# Altium schematic symbol library Transistors.SchLib: 9 symbols
Pins are listed as number, name and electrical type; pins without a type are passive.

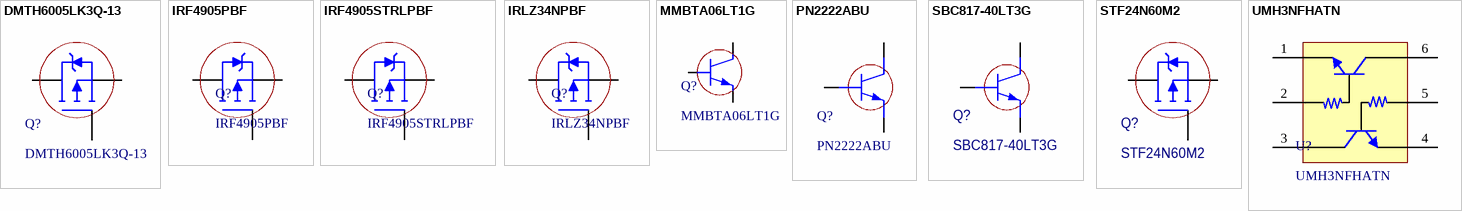
[diagram p0: symbols DMTH6005LK3Q-13 to UMH3NFHATN]

## DMTH6005LK3Q-13
designator Q?
MOSFET N-CH 60V 90A TO252-2; Manufacturer: Diodes; Package Body Material: Plastic; Transistor Element Material: SILICON; Polarity/Channel Type: N-CHANNEL; Additional Feature: HIGH RELIABILITY; Avalanche Energy Rating (Eas): 98mJ; Case Connection: DRAIN; Drain-source On Resistance-Max: 5.6mR; FET Technology: METAL-OXIDE SEMICONDUCTOR; Number of Elements: 1; Operating Mode: ENHANCEMENT MODE; Pulsed Drain Current-Max (IDM): 150A; Transistor Application: SWITCHING; Reference Standard: AEC-Q101; JEDEC-95 Code: TO-252; Supplier: Digikey; Supplier Part Number: DMTH6005LK3Q-13DICT-ND; Manufacturer Part Number: DMTH6005LK3Q-13; RoHS: Yes; Category: MOSFETs; Stock: 4322; Pricing: 1=1.79, 10=1.141, 100=0.7677, 500=0.60756, 1000=0.55604 (USD); Pins: 2; Package Shape: Rectangular; Drain Current-Max (ID): 90A; DS Breakdown Voltage-Min: 60V; JESD-30 Code: R-PSSO-G2; Package Style: SMALL OUTLINEMeter; Surface Mount: Yes; Terminal Form: Gull Wing; Terminal Position: SINGLE; RoHS Compliant: Yes; Reach SVHC Compliant: No; ComponentLink1URL: https://datasheet.ciiva.com:443/pdfs/VipMasterIC/IC/DIOD/DIOD-S-A0002497917/DIOD-S-A0002497917-1.pdf?src-supplier=IHS+Markit; ComponentLink1Description: https://datasheet.ciiva.com:443/pdfs/VipMasterIC/IC/DIOD/DIOD-S-A0002497917/DIOD-S-A0002497917-1.pdf?src-supplier=IHS+Markit; ComponentLink2URL: https://www.diodes.com/assets/Datasheets/DMTH6005LK3Q.pdf?src-supplier=Digikey; ComponentLink2Description: https://www.diodes.com/assets/Datasheets/DMTH6005LK3Q.pdf?src-supplier=Digikey
footprint TO-252-3
pins: 1 GATE, 2 DRAIN, 3 SOURCE

## IRF4905PBF
designator Q?
MOSFET P-CH 55V 74A TO220AB; Manufacturer: Infineon; Package Body Material: Plastic; Transistor Element Material: SILICON; Polarity/Channel Type: P-CHANNEL; Avalanche Energy Rating (Eas): 930mJ; Case Connection: DRAIN; Drain-source On Resistance-Max: 20mR; FET Technology: METAL-OXIDE SEMICONDUCTOR; Number of Elements: 1; Operating Mode: ENHANCEMENT MODE; Pulsed Drain Current-Max (IDM): 260A; Surface Mount: No; Transistor Application: SWITCHING; Drain Current-Max (Abs) (ID): 64A; Power Dissipation-Max (Abs): 150W; Time @ Peak Reflow Temperature-Max (s): 30s; JEDEC-95 Code: TO-220AB; Qualification Status: Not Qualified; Supplier: Digikey; Supplier Part Number: IRF4905PBF-ND; Manufacturer Part Number: IRF4905PBF; RoHS: Yes; Category: MOSFETs; Stock: 40718; Pricing: 1=2.12, 50=1.7014, 100=1.3999, 500=1.18454, 1000=1.00507, 2000=0.95482, 5000=0.91892, 10000=0.8885 (USD); Pins: 3; Package Shape: Rectangular; Terminal Finish: Nickel; Max Operating Temperature: 175°C; Drain Current-Max (ID): 74A; DS Breakdown Voltage-Min: 55V; JESD-30 Code: R-PSFM-T3; Package Style: FLANGE MOUNTMeter; Terminal Form: Through Hole; Terminal Position: SINGLE; JESD-609 Code: e3; Peak Reflow Temperature (Cel): 250°C; Reach SVHC Compliant: Yes; RoHS Compliant: Yes; ComponentLink1URL: https://datasheet.ciiva.com:443/pdfs/VipMasterIC/IC/IRSD/IRSDS18781/IRSDS18781-1.pdf?src-supplier=IHS+Markit; ComponentLink1Description: https://datasheet.ciiva.com:443/pdfs/VipMasterIC/IC/IRSD/IRSDS18781/IRSDS18781-1.pdf?src-supplier=IHS+Markit; ComponentLink2URL: http://www.farnell.com/datasheets/2043028.pdf?src-supplier=Farnell; ComponentLink2Description: http://www.farnell.com/datasheets/2043028.pdf?src-supplier=Farnell; ComponentLink3URL: https://www.alliedelec.com/m/d/9c565c07b8a17fdfcf4a6647f5367175.pdf?src-supplier=Allied+Electronics; ComponentLink3Description: https://www.alliedelec.com/m/d/9c565c07b8a17fdfcf4a6647f5367175.pdf?src-supplier=Allied+Electronics; ComponentLink4URL: https://www.infineon.com/dgdl/irf4905pbf.pdf?fileId=5546d462533600a4015355e329b1197e&src-supplier=Digikey; ComponentLink4Description: https://www.infineon.com/dgdl/irf4905pbf.pdf?fileId=5546d462533600a4015355e329b1197e&src-supplier=Digikey; ComponentLink5URL: http://www.farnell.com/datasheets/2043028.pdf?src-supplier=Element14; ComponentLink5Description: http://www.farnell.com/datasheets/2043028.pdf?src-supplier=Element14
footprint TO-220AB
pins: 1 GATE, 2 DRAIN, 3 SOURCE

## IRF4905STRLPBF
designator Q?
MOSFET P-CH 55V 42A D2PAK; Manufacturer: Infineon; Package Body Material: Plastic; Transistor Element Material: SILICON; Polarity/Channel Type: P-CHANNEL; Avalanche Energy Rating (Eas): 140mJ; Case Connection: DRAIN; Drain-source On Resistance-Max: 20mR; FET Technology: METAL-OXIDE SEMICONDUCTOR; Number of Elements: 1; Operating Mode: ENHANCEMENT MODE; Pulsed Drain Current-Max (IDM): 280A; Time @ Peak Reflow Temperature-Max (s): 30s; Transistor Application: SWITCHING; Power Dissipation-Max (Abs): 170W; Qualification Status: Not Qualified; JEDEC-95 Code: TO-263AB; Supplier: Digikey; Supplier Part Number: IRF4905STRLPBFCT-ND; Manufacturer Part Number: IRF4905STRLPBF; RoHS: Yes; Category: MOSFETs; Stock: 18570; Pricing: 1=2.71, 10=2.248, 100=1.7891 (USD); Pins: 2; Package Shape: Rectangular; Terminal Finish: Nickel; Max Operating Temperature: 150°C; JESD-609 Code: e3; Drain Current-Max (ID): 42A; DS Breakdown Voltage-Min: 55V; JESD-30 Code: R-PSSO-G2; Moisture Sensitivity Level: 1; Package Style: SMALL OUTLINEMeter; Peak Reflow Temperature (Cel): 260°C; Surface Mount: Yes; Terminal Form: Gull Wing; Terminal Position: SINGLE; Drain Current-Max (Abs) (ID): 42A; RoHS Compliant: Yes; Reach SVHC Compliant: No; ComponentLink1URL: https://datasheet.ciiva.com:443/pdfs/VipMasterIC/IC/IRSD/IRSDS09304/IRSDS09304-1.pdf?src-supplier=IHS+Markit; ComponentLink1Description: https://datasheet.ciiva.com:443/pdfs/VipMasterIC/IC/IRSD/IRSDS09304/IRSDS09304-1.pdf?src-supplier=IHS+Markit
footprint D2PAK
pins: 1 GATE, 2 DRAIN, 3 SOURCE

## IRLZ34NPBF
designator Q?
MOSFET N-CH 55V 30A TO220AB; Manufacturer: Infineon; Package Body Material: Plastic; Transistor Element Material: SILICON; Polarity/Channel Type: N-CHANNEL; Avalanche Energy Rating (Eas): 110mJ; Case Connection: DRAIN; Drain-source On Resistance-Max: 46mR; FET Technology: METAL-OXIDE SEMICONDUCTOR; Number of Elements: 1; Operating Mode: ENHANCEMENT MODE; Pulsed Drain Current-Max (IDM): 110A; Surface Mount: No; Time @ Peak Reflow Temperature-Max (s): 30s; Transistor Application: SWITCHING; JEDEC-95 Code: TO-220AB; Qualification Status: Not Qualified; Supplier: Digikey; Supplier Part Number: IRLZ34NPBF-ND; Manufacturer Part Number: IRLZ34NPBF; RoHS: Yes; Category: MOSFETs; Stock: 48925; Pricing: 1=1.92, 10=1.222, 100=0.8251, 500=0.65464, 1000=0.59972, 2000=0.55349, 5000=0.51175 (USD); Pins: 3; Package Shape: Rectangular; Terminal Finish: Nickel; JESD-609 Code: e3; Drain Current-Max (ID): 30A; DS Breakdown Voltage-Min: 55V; JESD-30 Code: R-PSFM-T3; Package Style: FLANGE MOUNTMeter; Peak Reflow Temperature (Cel): 250°C; Terminal Form: Through Hole; Terminal Position: SINGLE; Reach SVHC Compliant: No; RoHS Compliant: Yes; ComponentLink1URL: https://datasheet.ciiva.com:443/pdfs/VipMasterIC/IC/IRSD/IRSDS10979/IRSDS10979-1.pdf?src-supplier=IHS+Markit; ComponentLink1Description: https://datasheet.ciiva.com:443/pdfs/VipMasterIC/IC/IRSD/IRSDS10979/IRSDS10979-1.pdf?src-supplier=IHS+Markit; ComponentLink2URL: http://www.farnell.com/datasheets/140900.pdf?src-supplier=Farnell; ComponentLink2Description: http://www.farnell.com/datasheets/140900.pdf?src-supplier=Farnell; ComponentLink3URL: https://www.alliedelec.com/m/d/cec553c97988a3d31c8d36b60a9bef5c.pdf?src-supplier=Allied+Electronics; ComponentLink3Description: https://www.alliedelec.com/m/d/cec553c97988a3d31c8d36b60a9bef5c.pdf?src-supplier=Allied+Electronics; ComponentLink4URL: https://www.infineon.com/dgdl/irlz34npbf.pdf?fileId=5546d462533600a40153567206892720&src-supplier=Digikey; ComponentLink4Description: https://www.infineon.com/dgdl/irlz34npbf.pdf?fileId=5546d462533600a40153567206892720&src-supplier=Digikey; ComponentLink5URL: http://datasheet.octopart.com/IRLZ34NPBF-Infineon-datasheet-7836572.pdf?src-supplier=Avnet; ComponentLink5Description: http://datasheet.octopart.com/IRLZ34NPBF-Infineon-datasheet-7836572.pdf?src-supplier=Avnet; ComponentLink6URL: https://datasheet.octopart.com/IRLZ34N-International-Rectifier-datasheet-57064.pdf?src-supplier=Mouser; ComponentLink6Description: https://datasheet.octopart.com/IRLZ34N-International-Rectifier-datasheet-57064.pdf?src-supplier=Mouser; ComponentLink7URL: http://datasheet.octopart.com/IRLZ34NPBF-Infineon-datasheet-7836572.pdf?src-supplier=Arrow+Electronics; ComponentLink7Description: http://datasheet.octopart.com/IRLZ34NPBF-Infineon-datasheet-7836572.pdf?src-supplier=Arrow+Electronics; ComponentLink8URL: http://datasheet.octopart.com/IRLZ34NPBF-Infineon-datasheet-7836572.pdf?src-supplier=Rs; ComponentLink8Description: http://datasheet.octopart.com/IRLZ34NPBF-Infineon-datasheet-7836572.pdf?src-supplier=Rs; ComponentLink9URL: http://www.farnell.com/datasheets/140900.pdf?src-supplier=Element14; ComponentLink9Description: http://www.farnell.com/datasheets/140900.pdf?src-supplier=Element14; ComponentLink10URL: http://www.farnell.com/datasheets/140900.pdf?src-supplier=Newark; ComponentLink10Description: http://www.farnell.com/datasheets/140900.pdf?src-supplier=Newark; ComponentLink11URL: http://datasheet.octopart.com/IRLZ34NPBF-Infineon-datasheet-7836572.pdf?src-supplier=Onlinecomponents.com; ComponentLink11Description: http://datasheet.octopart.com/IRLZ34NPBF-Infineon-datasheet-7836572.pdf?src-supplier=Onlinecomponents.com; ComponentLink12URL: http://datasheet.octopart.com/IRLZ34NPBF-Infineon-datasheet-7836572.pdf?src-supplier=Verical; ComponentLink12Description: http://datasheet.octopart.com/IRLZ34NPBF-Infineon-datasheet-7836572.pdf?src-supplier=Verical; ComponentLink13URL: http://datasheet.octopart.com/IRLZ34NPBF-Infineon-datasheet-7836572.pdf?src-supplier=Future+Electronics; ComponentLink13Description: http://datasheet.octopart.com/IRLZ34NPBF-Infineon-datasheet-7836572.pdf?src-supplier=Future+Electronics; ComponentLink14URL: http://datasheet.octopart.com/IRLZ34NPBF-Infineon-datasheet-7836572.pdf?src-supplier=Quest; ComponentLink14Description: http://datasheet.octopart.com/IRLZ34NPBF-Infineon-datasheet-7836572.pdf?src-supplier=Quest; ComponentLink15URL: http://datasheet.octopart.com/IRLZ34NPBF-Infineon-datasheet-7836572.pdf?src-supplier=NAC+Semi; ComponentLink15Description: http://datasheet.octopart.com/IRLZ34NPBF-Infineon-datasheet-7836572.pdf?src-supplier=NAC+Semi
footprint TO-220AB
pins: 1 GATE, 2 DRAIN, 3 SOURCE

## MMBTA06LT1G
designator Q?
TRANS NPN 80V 0.5A SOT23-3; Manufacturer: ON Semiconductor; Package Body Material: Plastic; Transistor Element Material: SILICON; Max Collector Current: 500mA; DC Current Gain-Min (hFE): 100; Number of Elements: 1; Power Dissipation-Max (Abs): 225mW; Transistor Application: AMPLIFIER; Frequency: 100MHz; Time @ Peak Reflow Temperature-Max (s): 40s; JEDEC-95 Code: TO-236; Qualification Status: Not Qualified; Supplier: Digikey; Supplier Part Number: MMBTA06LT1GOSCT-ND; Manufacturer Part Number: MMBTA06LT1G; RoHS: Yes; Category: BJTs; Stock: 43340; Pricing: 1=0.14, 10=0.084, 100=0.0516, 500=0.0373, 1000=0.03264 (USD); Pins: 3; Package Shape: Rectangular; Terminal Finish: Tin; Max Operating Temperature: 150°C; JESD-609 Code: e3; Polarity/Channel Type: NPN; Collector-emitter Voltage-Max: 80V; JESD-30 Code: R-PDSO-G3; Moisture Sensitivity Level: 1; Package Style: SMALL OUTLINEMeter; Surface Mount: Yes; Terminal Form: Gull Wing; Terminal Position: DUAL; Peak Reflow Temperature (Cel): 260°C; Reach SVHC Compliant: Yes; RoHS Compliant: Yes; ComponentLink1URL: https://datasheet.ciiva.com:443/pdfs/VipMasterIC/IC/ONSM/ONSM-S-A0002809653/ONSM-S-A0002809653-1.pdf?src-supplier=IHS+Markit; ComponentLink1Description: https://datasheet.ciiva.com:443/pdfs/VipMasterIC/IC/ONSM/ONSM-S-A0002809653/ONSM-S-A0002809653-1.pdf?src-supplier=IHS+Markit
footprint SOT-23-3
pins: 1 BASE, 2 EMITTER, 3 COLLECTOR

## PN2222ABU
designator Q?
TRANS NPN 40V 1A TO92-3; Manufacturer: ON Semiconductor / Fairchild; Package Body Material: Plastic; Transistor Element Material: SILICON; DC Current Gain-Min (hFE): 40; Number of Elements: 1; Power Dissipation-Max (Abs): 625mW; Surface Mount: No; Transistor Application: SWITCHING; Frequency: 300MHz; Turn-off Time-Max (toff): 285ns; Turn-on Time-Max (ton): 35ns; JEDEC-95 Code: TO-92; Qualification Status: Not Qualified; Supplier: Digikey; Supplier Part Number: PN2222AFS-ND; Manufacturer Part Number: PN2222ABU; RoHS: Yes; Stock: 3119; Pricing: 1=0.4, 10=0.271, 100=0.1324, 500=0.11046, 1000=0.07675, 2000=0.06652, 5000=0.0617, 10000=0.05117, 50000=0.04515 (USD); Pins: 3; Package Shape: Round; Max Operating Temperature: 150°C; Polarity/Channel Type: NPN; Max Collector Current: 1A; Collector-emitter Voltage-Max: 40V; JESD-30 Code: O-PBCY-T3; Package Style: CYLINDRICALMeter; Terminal Form: Through Hole; Terminal Position: BOTTOM; Reach SVHC Compliant: Yes; RoHS Compliant: Yes; ComponentLink1URL: https://datasheet.ciiva.com:443/pdfs/VipMasterIC/IC/ONSM/ONSM-S-A0003586886/ONSM-S-A0003589513-1.pdf?src-supplier=IHS+Markit; ComponentLink1Description: https://datasheet.ciiva.com:443/pdfs/VipMasterIC/IC/ONSM/ONSM-S-A0003586886/ONSM-S-A0003589513-1.pdf?src-supplier=IHS+Markit; ComponentLink2URL: https://datasheet.ciiva.com/7972/1698498-7972838.pdf?src-supplier=Element14; ComponentLink2Description: https://datasheet.ciiva.com/7972/1698498-7972838.pdf?src-supplier=Element14; ComponentLink3URL: https://datasheet.ciiva.com/15139/getdatasheetpartid-93080-15139189.pdf?src-supplier=Verical; ComponentLink3Description: https://datasheet.ciiva.com/15139/getdatasheetpartid-93080-15139189.pdf?src-supplier=Verical; ComponentLink4URL: https://datasheet.ciiva.com/972/pn2222a-972182.pdf?src-supplier=Digikey; ComponentLink4Description: https://datasheet.ciiva.com/972/pn2222a-972182.pdf?src-supplier=Digikey; ComponentLink5URL: https://datasheet.ciiva.com/11197/pn2222a-11197674.pdf?src-supplier=Avnet; ComponentLink5Description: https://datasheet.ciiva.com/11197/pn2222a-11197674.pdf?src-supplier=Avnet; ComponentLink6URL: https://datasheet.ciiva.com/46415/1845309-46415596.pdf?src-supplier=Element14; ComponentLink6Description: https://datasheet.ciiva.com/46415/1845309-46415596.pdf?src-supplier=Element14; ComponentLink7URL: https://datasheet.ciiva.com/17485/pn2222a-17485503.pdf?src-supplier=Future+Electronics; ComponentLink7Description: https://datasheet.ciiva.com/17485/pn2222a-17485503.pdf?src-supplier=Future+Electronics
footprint TO-92-3
pins: 1 E, 2 B, 3 C

## SBC817-40LT3G
designator Q?
TRANS NPN 45V 0.5A SOT23-3; Manufacturer: onsemi; Manufacturer Lifecycle Status: ACTIVE; Description: Small Signal Bipolar Transistor, 0.5A I(C), 45V V(BR)CEO, 1-Element, NPN, Silicon, TO-236AB; Collector Base Voltage (VCBO): 50V; Continuous Collector Current: 500mA; Element Configuration: Single; Emitter Base Voltage (VEBO): 5V; Frequency: 100MHz; hFE Min: 250; Max Power Dissipation: 300mW; Number of Elements: 1; Supplier: DigiKey; Supplier Part Number: SBC817-40LT3GOSCT-ND; Manufacturer Part Number: SBC817-40LT3G; RoHS: Compliant; Category: BJTs; Stock: 144045; Pricing: 1=0.24, 10=0.146, 100=0.0904, 500=0.06616, 1000=0.05829, 2000=0.05165, 5000=0.04443 (USD); Case/Package: SOT-23-3; China RoHS: Compliant; Collector Emitter Breakdown Voltage: 45V; Collector Emitter Voltage (VCEO): 45V; Country of Origin: Mainland China; Export Control Classification Number (ECCN) Code: EAR99; Halogen Free: Halogen Free; Introduction Date: 1991-03-01; Lead Free: Lead Free; Lifecycle Status: Production; Max Breakdown Voltage: 45V; Max Collector Current: 500mA; Clock Frequency: 100MHz; Max Operating Temperature: 150°C; Min Operating Temperature: -55°C; Pins: 3; Number of Terminals: 3; Packaging: Tape and Reel; Polarity: NPN; Power Dissipation: 300mW; Radiation Hardening: No; REACH SVHC: Yes; Schedule B: 8541210080, 8541210080|8541210080, 8541210080|8541210080|8541210080, 8541210080|8541210080|8541210080|8541210080; Transition Frequency: 100MHz; ComponentLink1URL: https://datasheet.octopart.com:443/SBC817-40LT3G-onsemi-datasheet-175914671.pdf?src-supplier=IHS; ComponentLink1Description: https://datasheet.octopart.com:443/SBC817-40LT3G-onsemi-datasheet-175914671.pdf?src-supplier=IHS; ComponentLink2URL: https://datasheet.octopart.com:443/SBC817-40LT3G-ON-Semiconductor-datasheet-11547464.pdf?src-supplier=Upverter; ComponentLink2Description: https://datasheet.octopart.com:443/SBC817-40LT3G-ON-Semiconductor-datasheet-11547464.pdf?src-supplier=Upverter; ComponentLink3URL: https://datasheet.octopart.com:443/SBC817-40LT3G-ON-Semiconductor-datasheet-78758879.pdf?src-supplier=Master+Electronics; ComponentLink3Description: https://datasheet.octopart.com:443/SBC817-40LT3G-ON-Semiconductor-datasheet-78758879.pdf?src-supplier=Master+Electronics; ComponentLink4URL: https://datasheet.octopart.com:443/SBC817-40LT3G-onsemi-datasheet-189132499.pdf?src-supplier=Master+Electronics; ComponentLink4Description: https://datasheet.octopart.com:443/SBC817-40LT3G-onsemi-datasheet-189132499.pdf?src-supplier=Master+Electronics; ComponentLink5URL: https://datasheet.octopart.com:443/SBC817-40LT3G-ON-Semiconductor-datasheet-8110464.pdf?src-supplier=onsemi; ComponentLink5Description: https://datasheet.octopart.com:443/SBC817-40LT3G-ON-Semiconductor-datasheet-8110464.pdf?src-supplier=onsemi; ComponentLink6URL: https://datasheet.octopart.com:443/SBC817-40LT3G-ON-Semiconductor-datasheet-6400296.pdf?src-supplier=onsemi; ComponentLink6Description: https://datasheet.octopart.com:443/SBC817-40LT3G-ON-Semiconductor-datasheet-6400296.pdf?src-supplier=onsemi; ComponentLink7URL: https://datasheet.octopart.com:443/SBC817-40LT3G-onsemi-datasheet-133521192.pdf?src-supplier=TME; ComponentLink7Description: https://datasheet.octopart.com:443/SBC817-40LT3G-onsemi-datasheet-133521192.pdf?src-supplier=TME; ComponentLink8URL: http://sigma.octopart.com:80/15540786/rohs_certificate/ON-Semiconductor-SBC817-40LT3G.pdf?src-supplier=Compliance+Statements; ComponentLink8Description: http://sigma.octopart.com:80/15540786/rohs_certificate/ON-Semiconductor-SBC817-40LT3G.pdf?src-supplier=Compliance+Statements; ComponentLink9URL: http://sigma.octopart.com:80/15684525/materials_sheet/ON-Semiconductor-SBC817-40LT3G.csv?src-supplier=Compliance+Statements; ComponentLink9Description: http://sigma.octopart.com:80/15684525/materials_sheet/ON-Semiconductor-SBC817-40LT3G.csv?src-supplier=Compliance+Statements; ComponentLink10URL: http://sigma.octopart.com:80/150631289/rohs_statement/ON-Semiconductor-SBC817-40LT3G.pdf?src-supplier=Compliance+Statements; ComponentLink10Description: http://sigma.octopart.com:80/150631289/rohs_statement/ON-Semiconductor-SBC817-40LT3G.pdf?src-supplier=Compliance+Statements; ComponentLink11URL: http://sigma.octopart.com:80/reach_statement/ON-Semiconductor-company-79.pdf?src-supplier=Compliance+Statements; ComponentLink11Description: http://sigma.octopart.com:80/reach_statement/ON-Semiconductor-company-79.pdf?src-supplier=Compliance+Statements; ComponentLink12URL: https://octopart.com:443/opatz8j6/c1?t=cEC30QwZsyb0x-FMX1jhecc8cj0lODbyQVaJL5I4EOudI-i4uiyo8QJe7x8WGpb_UfldyhXdI6wTsOpeJ5HWz7Kzleo1EiYpUhSwBawIenFlUCJsMQESd9nlIcVrbvWrabnb6HpXCtvxDkswRDKZDOG3MBWymJDy-mDPZ7u5UlptsX8-ONvWANeBowi-w7nz9iZWLyjqVoM_QTKEQgTILpDidA8CXVyMync_ukwLaadxciX7hbgDafM4N20bPQPEg7z2Sm1KwG15cEibpJqtQ1hKuQpn-edZc_o2ddvdnsTvT3gddPA_45tVxaNa9XWOJj00WFdTbgFSlU6TTFEybWVRRlK52823bHwN5uVZ-7M&src-supplier=Compliance+Statements; ComponentLink12Description: https://octopart.com:443/opatz8j6/c1?t=cEC30QwZsyb0x-FMX1jhecc8cj0lODbyQVaJL5I4EOudI-i4uiyo8QJe7x8WGpb_UfldyhXdI6wTsOpeJ5HWz7Kzleo1EiYpUhSwBawIenFlUCJsMQESd9nlIcVrbvWrabnb6HpXCtvxDkswRDKZDOG3MBWymJDy-mDPZ7u5UlptsX8-ONvWANeBowi-w7nz9iZWLyjqVoM_QTKEQgTILpDidA8CXVyMync_ukwLaadxciX7hbgDafM4N20bPQPEg7z2Sm1KwG15cEibpJqtQ1hKuQpn-edZc_o2ddvdnsTvT3gddPA_45tVxaNa9XWOJj00WFdTbgFSlU6TTFEybWVRRlK52823bHwN5uVZ-7M&src-supplier=Compliance+Statements; ComponentLink13URL: https://octopart.com:443/opatz8j6/c1?t=zgMoQUE-FAGizIL2uNADbP3CQfJXduVKNLOt0cT-C7XNOnl5EOgq1b4UVzb0SZjomH3a3CKF513mPEsnVuWFTldNModuoiOAROM-U7UMjU1TiA4JeYDoVNfia-psQDQPr2NtqLaOU9Ju06PrsXVFYjz3NjgsSVJa-5X9CcWQ1HPxPGGUjhKccWy9QJVPTcefUdorkFOZvdb3XFmpP_42jgzyR9ZUQAURqjwANTg96Z5ittV_NTML0IEyFPhh0jLh0am3ICJpb8VA9ph6AsqLc9j4fhdilqUiQTpG4UGLijUcgX0mpfEUR-9G0JRIiKjoFhJPWB3BEKd5JcwsK41biiNJ-0hjTcgtgsqlWYFFTPLS&src-supplier=Compliance+Statements; ComponentLink13Description: https://octopart.com:443/opatz8j6/c1?t=zgMoQUE-FAGizIL2uNADbP3CQfJXduVKNLOt0cT-C7XNOnl5EOgq1b4UVzb0SZjomH3a3CKF513mPEsnVuWFTldNModuoiOAROM-U7UMjU1TiA4JeYDoVNfia-psQDQPr2NtqLaOU9Ju06PrsXVFYjz3NjgsSVJa-5X9CcWQ1HPxPGGUjhKccWy9QJVPTcefUdorkFOZvdb3XFmpP_42jgzyR9ZUQAURqjwANTg96Z5ittV_NTML0IEyFPhh0jLh0am3ICJpb8VA9ph6AsqLc9j4fhdilqUiQTpG4UGLijUcgX0mpfEUR-9G0JRIiKjoFhJPWB3BEKd5JcwsK41biiNJ-0hjTcgtgsqlWYFFTPLS&src-supplier=Compliance+Statements
footprint SOT-23-3
pins: 1 B, 2 E, 3 C

## STF24N60M2
designator Q?
MOSFET N-CH 600V 18A TO220FP; Manufacturer: STMicroelectronics; Drain to Source Resistance: 190mΩ; Element Configuration: Single; Fall Time: 61ns; Gate to Source Voltage (Vgs): 25V; Input Capacitance: 1.06nF; Max Power Dissipation: 30W; Number of Elements: 1; Rise Time: 9ns; Turn-Off Delay Time: 60ns; Turn-On Delay Time: 14ns; Supplier: DigiKey; Supplier Part Number: 497-13577-5-ND; Manufacturer Part Number: STF24N60M2; RoHS: Compliant; Category: MOSFETs; Stock: 871; Pricing: 1=3.33, 50=1.6716, 100=1.5103, 500=1.22756, 1000=1.13672, 2000=1.06037, 5000=1.05788 (USD); Case/Package: TO-220-3; China RoHS: Non-Compliant; Continuous Drain Current (ID): 18A; Country of Origin: Mainland China; Drain to Source Breakdown Voltage: 600V; Drain to Source Voltage (Vdss): 600V; Export Control Classification Number (ECCN) Code: EAR99; Height: 16.4mm; Introduction Date: 2013-01-14; Lead Free: Lead Free; Length: 10.4mm; Lifecycle Status: Production; Max Operating Temperature: 150°C; Min Breakdown Voltage: 600V; Min Operating Temperature: -55°C; Mounting Technology: Through Hole; Pins: 3; Number of Terminals: 3; Power Dissipation: 30W; Radiation Hardening: No; Rds On Max: 190mΩ; REACH SVHC: No; Schedule B: 8541290080, 8541290080|8541290080|8541290080|8541290080|8541290080|8541290080|8541290080|8541290080|8541290080|8541290080|8541290080|8541290080|8541290080|8541290080|8541290080|8541290080|8541290080|8541290080|8541290080|8541290080|8541290080|8541290080|8541290080|85; Width: 4.6mm; ComponentLink1URL: https://datasheet.octopart.com:443/STF24N60M2-STMicroelectronics-datasheet-62336145.pdf?src-supplier=Farnell; ComponentLink1Description: https://datasheet.octopart.com:443/STF24N60M2-STMicroelectronics-datasheet-62336145.pdf?src-supplier=Farnell; ComponentLink2URL: https://datasheet.octopart.com:443/STF24N60M2-STMicroelectronics-datasheet-16349054.pdf?src-supplier=Future+Electronics; ComponentLink2Description: https://datasheet.octopart.com:443/STF24N60M2-STMicroelectronics-datasheet-16349054.pdf?src-supplier=Future+Electronics; ComponentLink3URL: https://datasheet.octopart.com:443/STF24N60M2-STMicroelectronics-datasheet-62335173.pdf?src-supplier=TME; ComponentLink3Description: https://datasheet.octopart.com:443/STF24N60M2-STMicroelectronics-datasheet-62335173.pdf?src-supplier=TME
footprint TO-220FP
pins: 1 GATE, 2 DRAIN, 3 SOURCE

## UMH3NFHATN
designator U?
NPN+NPN DIGITAL TRANSISTOR(WITH; Manufacturer: Rohm; Supplier: Digikey; Supplier Part Number: UMH3NFHATNCT-ND; Manufacturer Part Number: UMH3NFHATN; RoHS: Yes; Category: BJTs; Stock: 4239; Pricing: 1=0.32, 10=0.194, 100=0.1213, 500=0.08962, 1000=0.07938 (USD); Reach SVHC Compliant: Yes; RoHS Compliant: Yes; ComponentLink1URL: https://datasheet.ciiva.com:443/pdfs/VipMasterIC/IC/ROHM/ROHM-S-A0002828521/ROHM-S-A0002828521-1.pdf?src-supplier=IHS+Markit; ComponentLink1Description: https://datasheet.ciiva.com:443/pdfs/VipMasterIC/IC/ROHM/ROHM-S-A0002828521/ROHM-S-A0002828521-1.pdf?src-supplier=IHS+Markit; ComponentLink2URL: http://www.farnell.com/datasheets/2297225.pdf?src-supplier=Farnell; ComponentLink2Description: http://www.farnell.com/datasheets/2297225.pdf?src-supplier=Farnell; ComponentLink3URL: http://rohmfs.rohm.com/en/products/databook/datasheet/discrete/transistor/digital/umh3nfha-e.pdf?src-supplier=Digikey; ComponentLink3Description: http://rohmfs.rohm.com/en/products/databook/datasheet/discrete/transistor/digital/umh3nfha-e.pdf?src-supplier=Digikey; ComponentLink4URL: http://rohmfs.rohm.com/en/techdata_basic/transistor/taping/UMT6_TN_taping.pdf?src-supplier=Digikey; ComponentLink4Description: http://rohmfs.rohm.com/en/techdata_basic/transistor/taping/UMT6_TN_taping.pdf?src-supplier=Digikey; ComponentLink5URL: https://datasheet.octopart.com/UMH3NFHATN-Rohm-datasheet-82984241.pdf?src-supplier=Element14; ComponentLink5Description: https://datasheet.octopart.com/UMH3NFHATN-Rohm-datasheet-82984241.pdf?src-supplier=Element14; ComponentLink6URL: http://www.farnell.com/datasheets/2297225.pdf?src-supplier=Newark; ComponentLink6Description: http://www.farnell.com/datasheets/2297225.pdf?src-supplier=Newark
footprint SOT-363
pins: 1, 2, 3, 4, 5, 6